# Altium schematic symbol library SIMCard.SchLib: 1 symbol
Pins are listed as number, name and electrical type; pins without a type are passive.

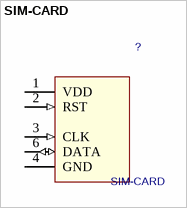
[diagram p0: symbol SIM-CARD]

## SIM-CARD
designator ?
Value: *
footprint SIM-HOLDER
pins: 1 VDD (power), 2 RST (in), 3 CLK (in), 4 GND (power), 6 DATA (io)